# Altium integrated library Linear Technology Power Management Hot Swap Controllers.IntLib: 992 symbols (part 73 of 93)
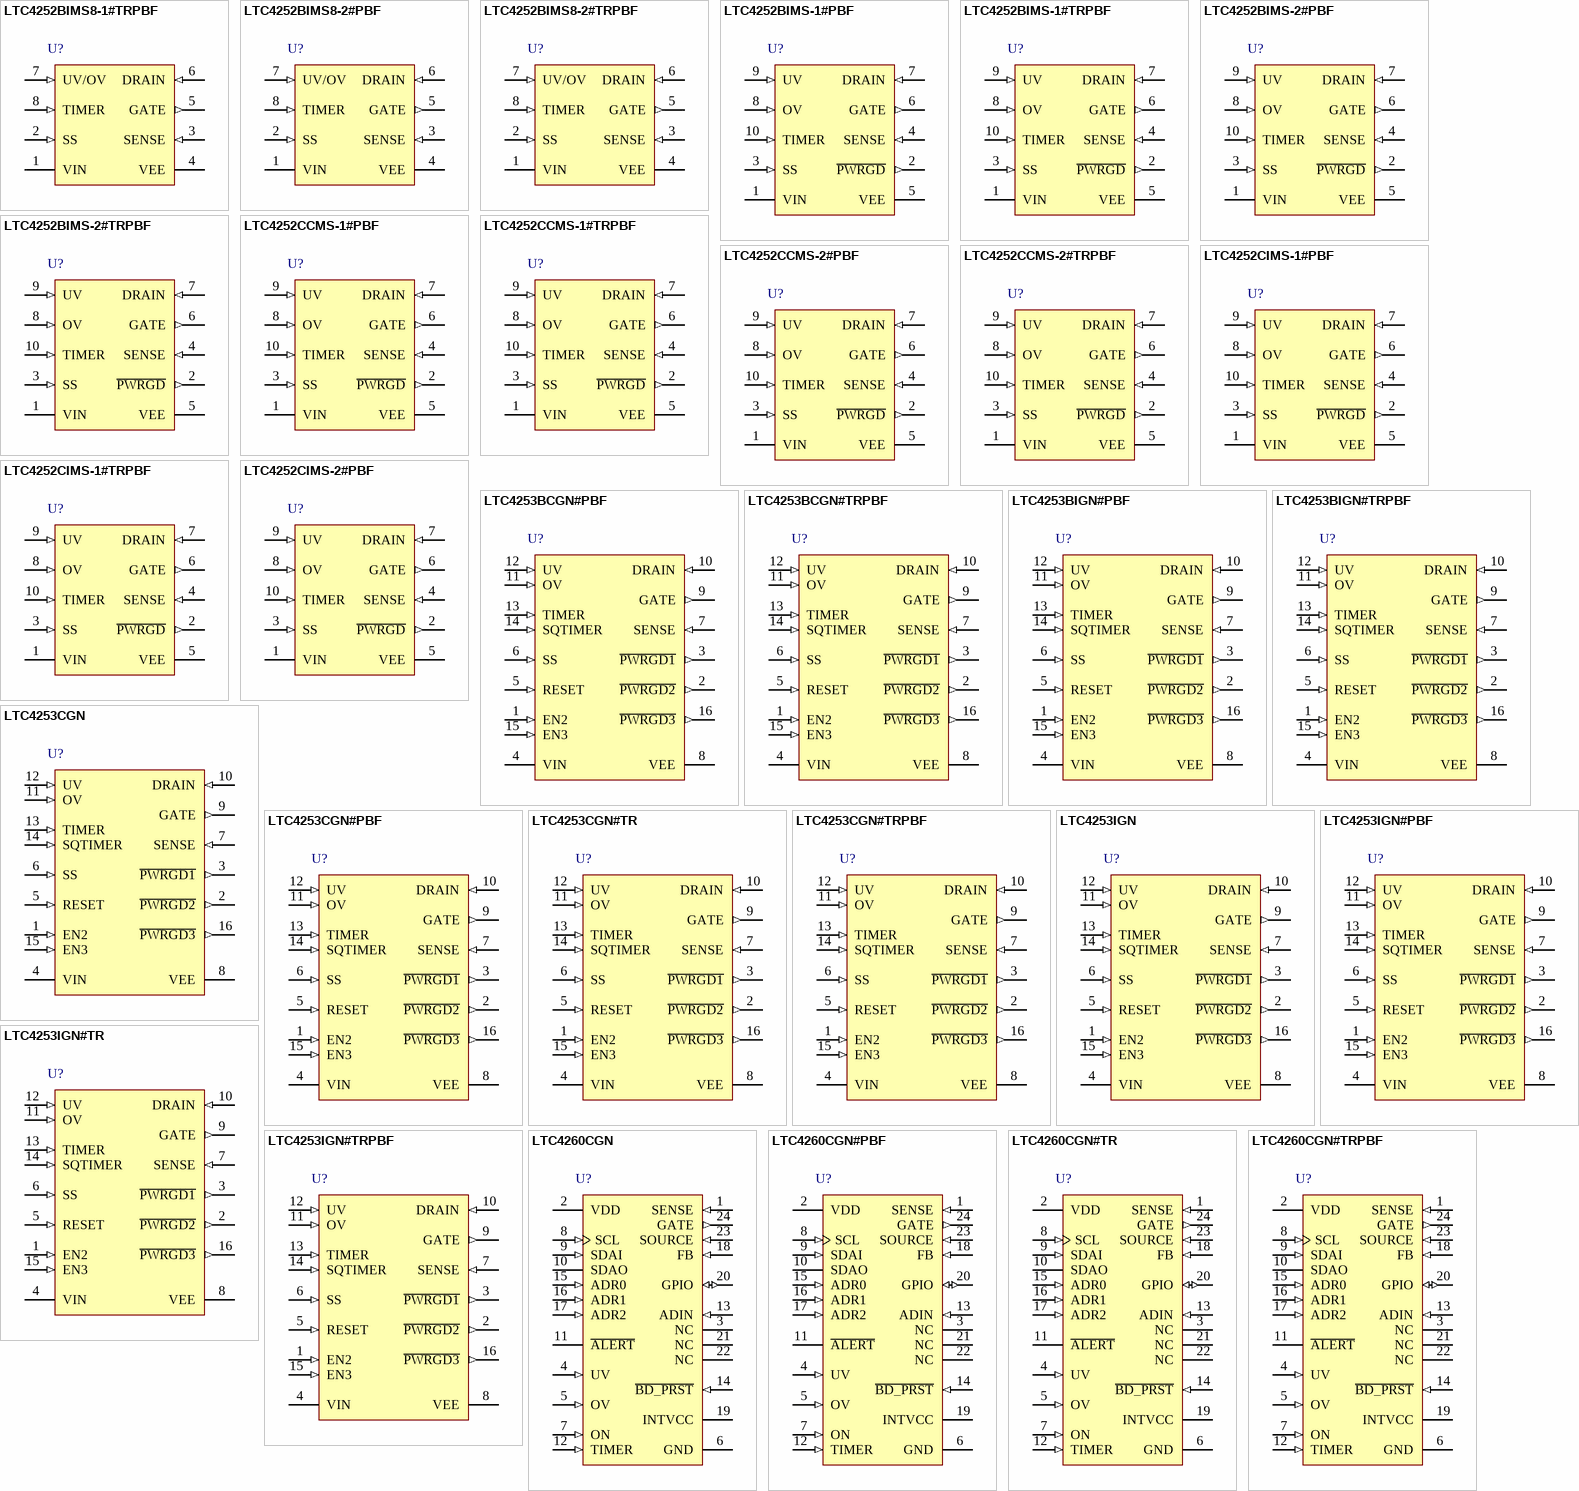
[diagram p109: symbols LTC4252BIMS8-1#TRPBF to LTC4260CGN#TRPBF]

## LTC4253IGN
designator U?
-48 V Hot Swap Controller with Sequencer, 16-pin SOP (GN-16), -40 to 85 degC; Manufacturer: Linear Technology; PartNumber: LTC4253IGN; Active Limiting: yes; Circuit Breaker Accuracy(%): 20; Circuit Breaker Threshold: 50 mV; Circuit Breakers(#): 1; Extended Temp: C, I; In-Rush Current: Active/SS; PackageVersion: Rev. B, 03/2012; PackageReference: GN-16; PackageDescription: 16-Pin Plastic SSOP, Body 4.9 x 3.9 mm, Pitch 0.635 mm; Supplier 1: Digi-Key; Supplier Part Number 1: LTC4253IGN-ND; Fast Comparator: yes; Fault: yes; Foldback: yes; Power Good: yes; Reset: yes; RoHS: FALSE; Mounting Technology: Surface Mount; ComponentLink1Description: Manufacturer URL; ComponentLink1URL: http://www.linear.com/; ComponentLink2Description: Datasheet; ComponentLink2URL: http://cds.linear.com/docs/en/datasheet/4253bf.pdf; ComponentLink3Description: Package Specification; ComponentLink3URL: http://cds.linear.com/docs/en/packaging/05081641_B_GN16.pdf
footprint LT-GN-16_N (SOP, 16-Leads, Body 5x4mm, Pitch 0.635mm, IPC Medium Density)
footprint LT-GN-16_L (SOP, 16-Leads, Body 5x4mm, Pitch 0.635mm, IPC High Density)
footprint LT-GN-16_M (SOP, 16-Leads, Body 5x4mm, Pitch 0.635mm, IPC Low Density)
pins: 1 EN2 (in) "Power Good Status Output Two Enable. This  is a TTL compatible input that is used to control P\W\R\G\D\2\ and P\W\R\G\D\3\ outputs. When EN2 is driven low, both  P\W\R\G\D\2\ and P\W\R\G\D\3\ will go high. When EN2 is driven (See Datasheet)", 2 ~{PWRGD2} (out) "Power Good Status Output Two. Power  good sequence starts with P\W\R\G\D\1\ latching active low.  P\W\R\G\D\2\ will latch active low after EN2 goes high and  after one power good sequence delay tSQT provided by the (See Datasheet)", 3 ~{PWRGD1} (out) "Power Good Status Output One. At startup, P\W\R\G\D\1\ latches active low and starts the power good  sequence when the DRAIN pin is below 2.39V and GATE  is within 2.8V of VIN. P\W\R\G\D\1\ status is reset by UV, VIN (UVLO), (See Datasheet)", 4 VIN (power) "Positive Supply Input. Connect this pin to the positive side of the supply through a dropping resistor. A  shunt regulator clamps VIN at 13V above VEE. An internal  undervoltage lockout (UVLO) circuit holds GATE low until  (See Datasheet)", 5 RESET (in) "Circuit Breaker Reset Pin. This is an asynchronous TTL compatible input. RESET going high will pull GATE, SS, TIMER, SQTIMER lowand the P\W\R\G\D\ outputs  high. The RESET pulse must be wide enough to discharge  any voltage (See Datasheet)", 6 SS (in) "Soft-Start Pin. This pin is used to ramp inrush  current during start up, there by effecting control over di/dt.  A 20X attenuated version of the SS pin voltage is presented  to the current limit amplifier. This attenuated (See Datasheet)", 7 SENSE (in) "Circuit Breaker/Current Limit Sense Pin.  Load current is monitored by a senseresistor RS connected between SENSE and VEE, and controlled in three steps. If SENSE exceeds VCB (50mV), the circuit breaker comparator activates (See Datasheet)", 8 VEE (power) "Negative Supply Voltage Input. Connect this  pin to the negative side of the power supply.", 9 GATE (out) "N-channel MOSFET Gate Drive Output. This  pin is pulled high by a 50uA current source. GATE is pulled  low by invalid conditions at VIN (UVLO), UV, OV, during the  initial timing cycle, a circuit breaker fault time-out or (See Datasheet)", 10 DRAIN (in) "Drain Sense Input. Connecting an external resistor, RD between this pin and the MOSFET’s drain  (VOUT) allows voltage sensing below 6.15V and current  feedback toTIMER. A comparator detects if DRAIN is below 2.39V an(See Datasheet)", 11 OV (in) "Overvoltage Input. For the LTC4253B, the  threshold at the OV pin is set at 6.15V with 0.3V hysteresis.  If OV > 6.15V, GATE pulls low. When OV returns below  5.85V, GATE start-up begins without an initial timing cycle. If (See Datasheet)", 12 UV (in) "Undervoltage Input. For the LTC4253B, the  threshold at the UV pin is set at 3.225V with 0.3V hysteresis. If UV < 2.925V, P\W\R\G\D\1\ pulls high, both GATE and  TIMER pull low. If UV rises above 3.225V, this initiates  an (See Datasheet)", 13 TIMER (in) "Timer Input. Timer is used to generate an initial timing delay at start-up, and to delay shutdown  in the event of an output overload (circuit breaker fault).  Timer starts an initial timing cycle when the following  (See Datasheet)", 14 SQTIMER (in) "Sequencing Timer Input. These quencing timer provides a delay tSQT for the power good sequencing. This delay is adjusted by connecting an appropriate capacitor to this pin. If the SQTIMER capacitor is omitted,  the SQTIMER (See Datasheet)", 15 EN3 (in) "Power Good Status Output Three Enable. This is a TTL compatible input that is used to control the  P\W\R\G\D\3\ output. When EN3 is driven low, P\W\R\G\D\3\ will  go high. When EN3 is driven high, P\W\R\G\D\3\ will go low  (See Datasheet)", 16 ~{PWRGD3} (out) "Power Good Status Output Three. Power good sequence starts with P\W\R\G\D\1\ latching active low.  P\W\R\G\D\3\ will latch active low after EN3 goes high and  after one power good sequence delay tSQT provided by  the (See Datasheet)"

## LTC4253IGN#PBF
designator U?
-48 V Hot Swap Controller with Sequencer, 16-pin SOP (GN-16), -40 to 85 degC, Pb-Free; Manufacturer: Linear Technology; PartNumber: LTC4253IGN#PBF; Active Limiting: yes; Circuit Breaker Accuracy(%): 20; Circuit Breaker Threshold: 50 mV; Circuit Breakers(#): 1; Extended Temp: C, I; In-Rush Current: Active/SS; PackageVersion: Rev. B, 03/2012; PackageReference: GN-16; PackageDescription: 16-Pin Plastic SSOP, Body 4.9 x 3.9 mm, Pitch 0.635 mm; Supplier 1: Digi-Key; Supplier Part Number 1: LTC4253IGN#PBF-ND; Fast Comparator: yes; Fault: yes; Foldback: yes; Power Good: yes; Reset: yes; RoHS: TRUE; Mounting Technology: Surface Mount; ComponentLink1Description: Manufacturer URL; ComponentLink1URL: http://www.linear.com/; ComponentLink2Description: Datasheet; ComponentLink2URL: http://cds.linear.com/docs/en/datasheet/4253bf.pdf; ComponentLink3Description: Package Specification; ComponentLink3URL: http://cds.linear.com/docs/en/packaging/05081641_B_GN16.pdf
footprint LT-GN-16_N (SOP, 16-Leads, Body 5x4mm, Pitch 0.635mm, IPC Medium Density)
footprint LT-GN-16_L (SOP, 16-Leads, Body 5x4mm, Pitch 0.635mm, IPC High Density)
footprint LT-GN-16_M (SOP, 16-Leads, Body 5x4mm, Pitch 0.635mm, IPC Low Density)
pins: 1 EN2 (in) "Power Good Status Output Two Enable. This  is a TTL compatible input that is used to control P\W\R\G\D\2\ and P\W\R\G\D\3\ outputs. When EN2 is driven low, both  P\W\R\G\D\2\ and P\W\R\G\D\3\ will go high. When EN2 is driven (See Datasheet)", 2 ~{PWRGD2} (out) "Power Good Status Output Two. Power  good sequence starts with P\W\R\G\D\1\ latching active low.  P\W\R\G\D\2\ will latch active low after EN2 goes high and  after one power good sequence delay tSQT provided by the (See Datasheet)", 3 ~{PWRGD1} (out) "Power Good Status Output One. At startup, P\W\R\G\D\1\ latches active low and starts the power good  sequence when the DRAIN pin is below 2.39V and GATE  is within 2.8V of VIN. P\W\R\G\D\1\ status is reset by UV, VIN (UVLO), (See Datasheet)", 4 VIN (power) "Positive Supply Input. Connect this pin to the positive side of the supply through a dropping resistor. A  shunt regulator clamps VIN at 13V above VEE. An internal  undervoltage lockout (UVLO) circuit holds GATE low until  (See Datasheet)", 5 RESET (in) "Circuit Breaker Reset Pin. This is an asynchronous TTL compatible input. RESET going high will pull GATE, SS, TIMER, SQTIMER lowand the P\W\R\G\D\ outputs  high. The RESET pulse must be wide enough to discharge  any voltage (See Datasheet)", 6 SS (in) "Soft-Start Pin. This pin is used to ramp inrush  current during start up, there by effecting control over di/dt.  A 20X attenuated version of the SS pin voltage is presented  to the current limit amplifier. This attenuated (See Datasheet)", 7 SENSE (in) "Circuit Breaker/Current Limit Sense Pin.  Load current is monitored by a senseresistor RS connected between SENSE and VEE, and controlled in three steps. If SENSE exceeds VCB (50mV), the circuit breaker comparator activates (See Datasheet)", 8 VEE (power) "Negative Supply Voltage Input. Connect this  pin to the negative side of the power supply.", 9 GATE (out) "N-channel MOSFET Gate Drive Output. This  pin is pulled high by a 50uA current source. GATE is pulled  low by invalid conditions at VIN (UVLO), UV, OV, during the  initial timing cycle, a circuit breaker fault time-out or (See Datasheet)", 10 DRAIN (in) "Drain Sense Input. Connecting an external resistor, RD between this pin and the MOSFET’s drain  (VOUT) allows voltage sensing below 6.15V and current  feedback toTIMER. A comparator detects if DRAIN is below 2.39V an(See Datasheet)", 11 OV (in) "Overvoltage Input. For the LTC4253B, the  threshold at the OV pin is set at 6.15V with 0.3V hysteresis.  If OV > 6.15V, GATE pulls low. When OV returns below  5.85V, GATE start-up begins without an initial timing cycle. If (See Datasheet)", 12 UV (in) "Undervoltage Input. For the LTC4253B, the  threshold at the UV pin is set at 3.225V with 0.3V hysteresis. If UV < 2.925V, P\W\R\G\D\1\ pulls high, both GATE and  TIMER pull low. If UV rises above 3.225V, this initiates  an (See Datasheet)", 13 TIMER (in) "Timer Input. Timer is used to generate an initial timing delay at start-up, and to delay shutdown  in the event of an output overload (circuit breaker fault).  Timer starts an initial timing cycle when the following  (See Datasheet)", 14 SQTIMER (in) "Sequencing Timer Input. These quencing timer provides a delay tSQT for the power good sequencing. This delay is adjusted by connecting an appropriate capacitor to this pin. If the SQTIMER capacitor is omitted,  the SQTIMER (See Datasheet)", 15 EN3 (in) "Power Good Status Output Three Enable. This is a TTL compatible input that is used to control the  P\W\R\G\D\3\ output. When EN3 is driven low, P\W\R\G\D\3\ will  go high. When EN3 is driven high, P\W\R\G\D\3\ will go low  (See Datasheet)", 16 ~{PWRGD3} (out) "Power Good Status Output Three. Power good sequence starts with P\W\R\G\D\1\ latching active low.  P\W\R\G\D\3\ will latch active low after EN3 goes high and  after one power good sequence delay tSQT provided by  the (See Datasheet)"

## LTC4253IGN#TR
designator U?
-48 V Hot Swap Controller with Sequencer, 16-pin SOP (GN-16), -40 to 85 degC, Tape and Reel; Manufacturer: Linear Technology; PartNumber: LTC4253IGN#TR; Active Limiting: yes; Circuit Breaker Accuracy(%): 20; Circuit Breaker Threshold: 50 mV; Circuit Breakers(#): 1; Extended Temp: C, I; In-Rush Current: Active/SS; PackageVersion: Rev. B, 03/2012; PackageReference: GN-16; PackageDescription: 16-Pin Plastic SSOP, Body 4.9 x 3.9 mm, Pitch 0.635 mm; Supplier 1: Digi-Key; Supplier Part Number 1: LTC4253IGNTR-ND; Fast Comparator: yes; Fault: yes; Foldback: yes; Packing: Tape and Reel; Power Good: yes; Reset: yes; RoHS: FALSE; Mounting Technology: Surface Mount; ComponentLink1Description: Manufacturer URL; ComponentLink1URL: http://www.linear.com/; ComponentLink2Description: Datasheet; ComponentLink2URL: http://cds.linear.com/docs/en/datasheet/4253bf.pdf; ComponentLink3Description: Package Specification; ComponentLink3URL: http://cds.linear.com/docs/en/packaging/05081641_B_GN16.pdf
footprint LT-GN-16_N (SOP, 16-Leads, Body 5x4mm, Pitch 0.635mm, IPC Medium Density)
footprint LT-GN-16_L (SOP, 16-Leads, Body 5x4mm, Pitch 0.635mm, IPC High Density)
footprint LT-GN-16_M (SOP, 16-Leads, Body 5x4mm, Pitch 0.635mm, IPC Low Density)
pins: 1 EN2 (in) "Power Good Status Output Two Enable. This  is a TTL compatible input that is used to control P\W\R\G\D\2\ and P\W\R\G\D\3\ outputs. When EN2 is driven low, both  P\W\R\G\D\2\ and P\W\R\G\D\3\ will go high. When EN2 is driven (See Datasheet)", 2 ~{PWRGD2} (out) "Power Good Status Output Two. Power  good sequence starts with P\W\R\G\D\1\ latching active low.  P\W\R\G\D\2\ will latch active low after EN2 goes high and  after one power good sequence delay tSQT provided by the (See Datasheet)", 3 ~{PWRGD1} (out) "Power Good Status Output One. At startup, P\W\R\G\D\1\ latches active low and starts the power good  sequence when the DRAIN pin is below 2.39V and GATE  is within 2.8V of VIN. P\W\R\G\D\1\ status is reset by UV, VIN (UVLO), (See Datasheet)", 4 VIN (power) "Positive Supply Input. Connect this pin to the positive side of the supply through a dropping resistor. A  shunt regulator clamps VIN at 13V above VEE. An internal  undervoltage lockout (UVLO) circuit holds GATE low until  (See Datasheet)", 5 RESET (in) "Circuit Breaker Reset Pin. This is an asynchronous TTL compatible input. RESET going high will pull GATE, SS, TIMER, SQTIMER lowand the P\W\R\G\D\ outputs  high. The RESET pulse must be wide enough to discharge  any voltage (See Datasheet)", 6 SS (in) "Soft-Start Pin. This pin is used to ramp inrush  current during start up, there by effecting control over di/dt.  A 20X attenuated version of the SS pin voltage is presented  to the current limit amplifier. This attenuated (See Datasheet)", 7 SENSE (in) "Circuit Breaker/Current Limit Sense Pin.  Load current is monitored by a senseresistor RS connected between SENSE and VEE, and controlled in three steps. If SENSE exceeds VCB (50mV), the circuit breaker comparator activates (See Datasheet)", 8 VEE (power) "Negative Supply Voltage Input. Connect this  pin to the negative side of the power supply.", 9 GATE (out) "N-channel MOSFET Gate Drive Output. This  pin is pulled high by a 50uA current source. GATE is pulled  low by invalid conditions at VIN (UVLO), UV, OV, during the  initial timing cycle, a circuit breaker fault time-out or (See Datasheet)", 10 DRAIN (in) "Drain Sense Input. Connecting an external resistor, RD between this pin and the MOSFET’s drain  (VOUT) allows voltage sensing below 6.15V and current  feedback toTIMER. A comparator detects if DRAIN is below 2.39V an(See Datasheet)", 11 OV (in) "Overvoltage Input. For the LTC4253B, the  threshold at the OV pin is set at 6.15V with 0.3V hysteresis.  If OV > 6.15V, GATE pulls low. When OV returns below  5.85V, GATE start-up begins without an initial timing cycle. If (See Datasheet)", 12 UV (in) "Undervoltage Input. For the LTC4253B, the  threshold at the UV pin is set at 3.225V with 0.3V hysteresis. If UV < 2.925V, P\W\R\G\D\1\ pulls high, both GATE and  TIMER pull low. If UV rises above 3.225V, this initiates  an (See Datasheet)", 13 TIMER (in) "Timer Input. Timer is used to generate an initial timing delay at start-up, and to delay shutdown  in the event of an output overload (circuit breaker fault).  Timer starts an initial timing cycle when the following  (See Datasheet)", 14 SQTIMER (in) "Sequencing Timer Input. These quencing timer provides a delay tSQT for the power good sequencing. This delay is adjusted by connecting an appropriate capacitor to this pin. If the SQTIMER capacitor is omitted,  the SQTIMER (See Datasheet)", 15 EN3 (in) "Power Good Status Output Three Enable. This is a TTL compatible input that is used to control the  P\W\R\G\D\3\ output. When EN3 is driven low, P\W\R\G\D\3\ will  go high. When EN3 is driven high, P\W\R\G\D\3\ will go low  (See Datasheet)", 16 ~{PWRGD3} (out) "Power Good Status Output Three. Power good sequence starts with P\W\R\G\D\1\ latching active low.  P\W\R\G\D\3\ will latch active low after EN3 goes high and  after one power good sequence delay tSQT provided by  the (See Datasheet)"

## LTC4253IGN#TRPBF
designator U?
-48 V Hot Swap Controller with Sequencer, 16-pin SOP (GN-16), -40 to 85 degC, Pb-Free, Tape and Reel; Manufacturer: Linear Technology; PartNumber: LTC4253IGN#TRPBF; Active Limiting: yes; Circuit Breaker Accuracy(%): 20; Circuit Breaker Threshold: 50 mV; Circuit Breakers(#): 1; Extended Temp: C, I; In-Rush Current: Active/SS; PackageVersion: Rev. B, 03/2012; PackageReference: GN-16; PackageDescription: 16-Pin Plastic SSOP, Body 4.9 x 3.9 mm, Pitch 0.635 mm; Supplier 1: Digi-Key; Supplier Part Number 1: LTC4253IGN#TRPBF-ND; Fast Comparator: yes; Fault: yes; Foldback: yes; Packing: Tape and Reel; Power Good: yes; Reset: yes; RoHS: TRUE; Mounting Technology: Surface Mount; ComponentLink1Description: Manufacturer URL; ComponentLink1URL: http://www.linear.com/; ComponentLink2Description: Datasheet; ComponentLink2URL: http://cds.linear.com/docs/en/datasheet/4253bf.pdf; ComponentLink3Description: Package Specification; ComponentLink3URL: http://cds.linear.com/docs/en/packaging/05081641_B_GN16.pdf
footprint LT-GN-16_N (SOP, 16-Leads, Body 5x4mm, Pitch 0.635mm, IPC Medium Density)
footprint LT-GN-16_L (SOP, 16-Leads, Body 5x4mm, Pitch 0.635mm, IPC High Density)
footprint LT-GN-16_M (SOP, 16-Leads, Body 5x4mm, Pitch 0.635mm, IPC Low Density)
pins: 1 EN2 (in) "Power Good Status Output Two Enable. This  is a TTL compatible input that is used to control P\W\R\G\D\2\ and P\W\R\G\D\3\ outputs. When EN2 is driven low, both  P\W\R\G\D\2\ and P\W\R\G\D\3\ will go high. When EN2 is driven (See Datasheet)", 2 ~{PWRGD2} (out) "Power Good Status Output Two. Power  good sequence starts with P\W\R\G\D\1\ latching active low.  P\W\R\G\D\2\ will latch active low after EN2 goes high and  after one power good sequence delay tSQT provided by the (See Datasheet)", 3 ~{PWRGD1} (out) "Power Good Status Output One. At startup, P\W\R\G\D\1\ latches active low and starts the power good  sequence when the DRAIN pin is below 2.39V and GATE  is within 2.8V of VIN. P\W\R\G\D\1\ status is reset by UV, VIN (UVLO), (See Datasheet)", 4 VIN (power) "Positive Supply Input. Connect this pin to the positive side of the supply through a dropping resistor. A  shunt regulator clamps VIN at 13V above VEE. An internal  undervoltage lockout (UVLO) circuit holds GATE low until  (See Datasheet)", 5 RESET (in) "Circuit Breaker Reset Pin. This is an asynchronous TTL compatible input. RESET going high will pull GATE, SS, TIMER, SQTIMER lowand the P\W\R\G\D\ outputs  high. The RESET pulse must be wide enough to discharge  any voltage (See Datasheet)", 6 SS (in) "Soft-Start Pin. This pin is used to ramp inrush  current during start up, there by effecting control over di/dt.  A 20X attenuated version of the SS pin voltage is presented  to the current limit amplifier. This attenuated (See Datasheet)", 7 SENSE (in) "Circuit Breaker/Current Limit Sense Pin.  Load current is monitored by a senseresistor RS connected between SENSE and VEE, and controlled in three steps. If SENSE exceeds VCB (50mV), the circuit breaker comparator activates (See Datasheet)", 8 VEE (power) "Negative Supply Voltage Input. Connect this  pin to the negative side of the power supply.", 9 GATE (out) "N-channel MOSFET Gate Drive Output. This  pin is pulled high by a 50uA current source. GATE is pulled  low by invalid conditions at VIN (UVLO), UV, OV, during the  initial timing cycle, a circuit breaker fault time-out or (See Datasheet)", 10 DRAIN (in) "Drain Sense Input. Connecting an external resistor, RD between this pin and the MOSFET’s drain  (VOUT) allows voltage sensing below 6.15V and current  feedback toTIMER. A comparator detects if DRAIN is below 2.39V an(See Datasheet)", 11 OV (in) "Overvoltage Input. For the LTC4253B, the  threshold at the OV pin is set at 6.15V with 0.3V hysteresis.  If OV > 6.15V, GATE pulls low. When OV returns below  5.85V, GATE start-up begins without an initial timing cycle. If (See Datasheet)", 12 UV (in) "Undervoltage Input. For the LTC4253B, the  threshold at the UV pin is set at 3.225V with 0.3V hysteresis. If UV < 2.925V, P\W\R\G\D\1\ pulls high, both GATE and  TIMER pull low. If UV rises above 3.225V, this initiates  an (See Datasheet)", 13 TIMER (in) "Timer Input. Timer is used to generate an initial timing delay at start-up, and to delay shutdown  in the event of an output overload (circuit breaker fault).  Timer starts an initial timing cycle when the following  (See Datasheet)", 14 SQTIMER (in) "Sequencing Timer Input. These quencing timer provides a delay tSQT for the power good sequencing. This delay is adjusted by connecting an appropriate capacitor to this pin. If the SQTIMER capacitor is omitted,  the SQTIMER (See Datasheet)", 15 EN3 (in) "Power Good Status Output Three Enable. This is a TTL compatible input that is used to control the  P\W\R\G\D\3\ output. When EN3 is driven low, P\W\R\G\D\3\ will  go high. When EN3 is driven high, P\W\R\G\D\3\ will go low  (See Datasheet)", 16 ~{PWRGD3} (out) "Power Good Status Output Three. Power good sequence starts with P\W\R\G\D\1\ latching active low.  P\W\R\G\D\3\ will latch active low after EN3 goes high and  after one power good sequence delay tSQT provided by  the (See Datasheet)"

## LTC4260CGN
designator U?
Positive High Voltage Hot Swap Controller with I2C Compatible Monitoring, 8.5 to 80 V Vin, 24-pin SOP (GN-24), 0 to 70 degC; Manufacturer: Linear Technology; PartNumber: LTC4260CGN; Active Limiting: yes; ADC: 8-bit; Circuit Breaker Accuracy(%): 10; Circuit Breaker Threshold: 50 mV; Circuit Breakers(#): 1; Extended Temp: C, I; Fast Comparator: no; In-Rush Current: Active; DatasheetVersion: Rev. C; PackageVersion: Rev. B, 03/2012; PackageReference: GN24; PackageDescription: 24-Pin Plastic SSOP , Body 8.5 x 3.9 mm, Pitch 0.635 mm; Supplier 1: Newark; Supplier Part Number 1: 56M9107; Fault: yes; Foldback: yes; Power Good: yes; Reset: no; RoHS: FALSE; Vin Range: 8.5 to 80 V; Mounting Technology: Surface Mount; ComponentLink1Description: Manufacturer URL; ComponentLink1URL: http://www.linear.com/; ComponentLink2Description: Datasheet; ComponentLink2URL: http://cds.linear.com/docs/en/datasheet/4260fc.pdf; ComponentLink3Description: Package Specification; ComponentLink3URL: http://cds.linear.com/docs/en/packaging/05081641_B_GN24.pdf
footprint LT-GN-24_N (SOP, 24-Leads, Body 8.7x4mm, Pitch 0.635mm, IPC Medium Density)
footprint LT-GN-24_L (SOP, 24-Leads, Body 8.7x4mm, Pitch 0.635mm, IPC High Density)
footprint LT-GN-24_M (SOP, 24-Leads, Body 8.7x4mm, Pitch 0.635mm, IPC Low Density)
pins: 1 SENSE (in) "Current Sense Input. Connect this pin to the output of the current sense resistor.", 2 VDD (power) "Supply Voltage and Current Sense Input. This pin has an undervoltage lockout threshold of 7.45V.", 3 NC "No Connect. Unconnected pins. These pins provide extra distance between high and low voltage pins.", 4 UV (in) "Undervoltage Comparator Input. Connect this pin to an external resistive divider from VDD. If the voltage at this pin falls below 3.12V, an undervoltage fault is detected and the switch turns off.", 5 OV (in) "Overvoltage Comparator Input. Connect this pin to an external resistive divider from VDD. If the voltage at this pin rises above 3.5V, an overvoltage fault is detected and the switch turns off. Tie to GND if unused.", 6 GND (power) "Device Ground.", 7 ON (in) "On Control Input. A rising edge turns on the external N-channel FET and a falling edge turns it off.", 8 SCL (in) "Serial Bus Clock Input. Data at the SDA pin is shifted in or out on rising edges of SCL.", 9 SDAI (in) "Serial Bus Data Input. A high impedance input used for shifting in address, command or data bits. Normally tied to SDAO to form the SDA line.", 10 SDAO (oc) "Serial Bus Data Output. Open-drain output used for sending data back to the master controller or acknowledging a write operation. Normally tied to SDAI to form the SDA line. An external pull-up resistor or current source is (See Datasheet)", 11 ~{ALERT} (oc) "Fault Alert Output. Open-drain logic output that can be pulled to ground when a fault occurs to alert the host controller. A fault alert is enabled by the ALERT register. This device is compatible with SMBus alert protocol. (See Datasheet)", 12 TIMER (in) "Timer Input. Connect a capacitor between this pin and ground to set a 12ms/uF duration for current limit before the switch is turned off.", 13 ADIN (in) "ADC Input. A voltage between 0V and 2.56V applied to this pin can be measured by the onboard ADC. Tie to ground if unused.", 14 ~{BD_PRST} (in) "Board Present Input. Ground this pin to enable the N-channel FET to turn on after 100ms debounce delay. When this pin is high, the FET is off. An internal 10uA current source pulls up this pin.", 15 ADR0 (in) "Serial Bus Address Inputs. Tying these pins to ground, open or INTVCC configures one of 27 possible addresses. See Table 1 in Applications Information", 16 ADR1 (in) "Serial Bus Address Inputs. Tying these pins to ground, open or INTVCC configures one of 27 possible addresses. See Table 1 in Applications Information", 17 ADR2 (in) "Serial Bus Address Inputs. Tying these pins to ground, open or INTVCC configures one of 27 possible addresses. See Table 1 in Applications Information", 18 FB (in) "Foldback and Power Good Input. A resistive divider from the output voltage is tied to this pin.", 19 INTVCC (power) "Internal Low Voltage Supply Decoupling Output. Connect a 0.1uF capacitor from this pin to ground. This pin can be used to drive the other pins to logic high and has an undervoltage lockout threshold of 3.8V.", 20 GPIO (io) "General Purpose Input/Output. Open-drain logic output and logic input. Defaults to pull low to indicatepower is bad. Configure according to Table 3.", 21 NC "No Connect. Unconnected pins. These pins provide extra distance between high and low voltage pins.", 22 NC "No Connect. Unconnected pins. These pins provide extra distance between high and low voltage pins.", 23 SOURCE (in) "N-Channel MOSFET Source Connection and ADC Input. Connect this pin to the source of the external N-channel MOSFET switch. This pin also serves as the ADC input to monitor output voltage. The pin provides a return for the (See Datasheet)", 24 GATE (out) "Gate Drive for External N-Channel FET. An internal 18uA current source charges the gate of the external N-channel MOSFET. A resistor and capacitor network from this pin to ground sets the turn-on rate and compensates th(See Datasheet)"

## LTC4260CGN#PBF
designator U?
Positive High Voltage Hot Swap Controller with I2C Compatible Monitoring, 8.5 to 80 V Vin, 24-pin SOP (GN-24), 0 to 70 degC, Pb-Free; Manufacturer: Linear Technology; PartNumber: LTC4260CGN#PBF; Active Limiting: yes; ADC: 8-bit; Circuit Breaker Accuracy(%): 10; Circuit Breaker Threshold: 50 mV; Circuit Breakers(#): 1; Extended Temp: C, I; Fast Comparator: no; In-Rush Current: Active; DatasheetVersion: Rev. C; PackageVersion: Rev. B, 03/2012; PackageReference: GN24; PackageDescription: 24-Pin Plastic SSOP , Body 8.5 x 3.9 mm, Pitch 0.635 mm; Supplier 1: Digi-Key; Supplier Part Number 1: LTC4260CGN#PBF-ND; Supplier 2: Newark; Supplier Part Number 2: 56M9108; Fault: yes; Foldback: yes; Power Good: yes; Reset: no; RoHS: TRUE; Vin Range: 8.5 to 80 V; Mounting Technology: Surface Mount; ComponentLink1Description: Manufacturer URL; ComponentLink1URL: http://www.linear.com/; ComponentLink2Description: Datasheet; ComponentLink2URL: http://cds.linear.com/docs/en/datasheet/4260fc.pdf; ComponentLink3Description: Package Specification; ComponentLink3URL: http://cds.linear.com/docs/en/packaging/05081641_B_GN24.pdf
footprint LT-GN-24_N (SOP, 24-Leads, Body 8.7x4mm, Pitch 0.635mm, IPC Medium Density)
footprint LT-GN-24_L (SOP, 24-Leads, Body 8.7x4mm, Pitch 0.635mm, IPC High Density)
footprint LT-GN-24_M (SOP, 24-Leads, Body 8.7x4mm, Pitch 0.635mm, IPC Low Density)
pins: 1 SENSE (in) "Current Sense Input. Connect this pin to the output of the current sense resistor.", 2 VDD (power) "Supply Voltage and Current Sense Input. This pin has an undervoltage lockout threshold of 7.45V.", 3 NC "No Connect. Unconnected pins. These pins provide extra distance between high and low voltage pins.", 4 UV (in) "Undervoltage Comparator Input. Connect this pin to an external resistive divider from VDD. If the voltage at this pin falls below 3.12V, an undervoltage fault is detected and the switch turns off.", 5 OV (in) "Overvoltage Comparator Input. Connect this pin to an external resistive divider from VDD. If the voltage at this pin rises above 3.5V, an overvoltage fault is detected and the switch turns off. Tie to GND if unused.", 6 GND (power) "Device Ground.", 7 ON (in) "On Control Input. A rising edge turns on the external N-channel FET and a falling edge turns it off.", 8 SCL (in) "Serial Bus Clock Input. Data at the SDA pin is shifted in or out on rising edges of SCL.", 9 SDAI (in) "Serial Bus Data Input. A high impedance input used for shifting in address, command or data bits. Normally tied to SDAO to form the SDA line.", 10 SDAO (oc) "Serial Bus Data Output. Open-drain output used for sending data back to the master controller or acknowledging a write operation. Normally tied to SDAI to form the SDA line. An external pull-up resistor or current source is (See Datasheet)", 11 ~{ALERT} (oc) "Fault Alert Output. Open-drain logic output that can be pulled to ground when a fault occurs to alert the host controller. A fault alert is enabled by the ALERT register. This device is compatible with SMBus alert protocol. (See Datasheet)", 12 TIMER (in) "Timer Input. Connect a capacitor between this pin and ground to set a 12ms/uF duration for current limit before the switch is turned off.", 13 ADIN (in) "ADC Input. A voltage between 0V and 2.56V applied to this pin can be measured by the onboard ADC. Tie to ground if unused.", 14 ~{BD_PRST} (in) "Board Present Input. Ground this pin to enable the N-channel FET to turn on after 100ms debounce delay. When this pin is high, the FET is off. An internal 10uA current source pulls up this pin.", 15 ADR0 (in) "Serial Bus Address Inputs. Tying these pins to ground, open or INTVCC configures one of 27 possible addresses. See Table 1 in Applications Information", 16 ADR1 (in) "Serial Bus Address Inputs. Tying these pins to ground, open or INTVCC configures one of 27 possible addresses. See Table 1 in Applications Information", 17 ADR2 (in) "Serial Bus Address Inputs. Tying these pins to ground, open or INTVCC configures one of 27 possible addresses. See Table 1 in Applications Information", 18 FB (in) "Foldback and Power Good Input. A resistive divider from the output voltage is tied to this pin.", 19 INTVCC (power) "Internal Low Voltage Supply Decoupling Output. Connect a 0.1uF capacitor from this pin to ground. This pin can be used to drive the other pins to logic high and has an undervoltage lockout threshold of 3.8V.", 20 GPIO (io) "General Purpose Input/Output. Open-drain logic output and logic input. Defaults to pull low to indicatepower is bad. Configure according to Table 3.", 21 NC "No Connect. Unconnected pins. These pins provide extra distance between high and low voltage pins.", 22 NC "No Connect. Unconnected pins. These pins provide extra distance between high and low voltage pins.", 23 SOURCE (in) "N-Channel MOSFET Source Connection and ADC Input. Connect this pin to the source of the external N-channel MOSFET switch. This pin also serves as the ADC input to monitor output voltage. The pin provides a return for the (See Datasheet)", 24 GATE (out) "Gate Drive for External N-Channel FET. An internal 18uA current source charges the gate of the external N-channel MOSFET. A resistor and capacitor network from this pin to ground sets the turn-on rate and compensates th(See Datasheet)"

## LTC4260CGN#TR
designator U?
Positive High Voltage Hot Swap Controller with I2C Compatible Monitoring, 8.5 to 80 V Vin, 24-pin SOP (GN-24), 0 to 70 degC, Tape and Reel; Manufacturer: Linear Technology; PartNumber: LTC4260CGN#TR; Active Limiting: yes; ADC: 8-bit; Circuit Breaker Accuracy(%): 10; Circuit Breaker Threshold: 50 mV; Circuit Breakers(#): 1; Extended Temp: C, I; Fast Comparator: no; In-Rush Current: Active; DatasheetVersion: Rev. C; PackageVersion: Rev. B, 03/2012; PackageReference: GN24; PackageDescription: 24-Pin Plastic SSOP , Body 8.5 x 3.9 mm, Pitch 0.635 mm; Fault: yes; Foldback: yes; Packing: Tape and Reel; Power Good: yes; Reset: no; RoHS: FALSE; Vin Range: 8.5 to 80 V; Mounting Technology: Surface Mount; ComponentLink1Description: Manufacturer URL; ComponentLink1URL: http://www.linear.com/; ComponentLink2Description: Datasheet; ComponentLink2URL: http://cds.linear.com/docs/en/datasheet/4260fc.pdf; ComponentLink3Description: Package Specification; ComponentLink3URL: http://cds.linear.com/docs/en/packaging/05081641_B_GN24.pdf
footprint LT-GN-24_N (SOP, 24-Leads, Body 8.7x4mm, Pitch 0.635mm, IPC Medium Density)
footprint LT-GN-24_L (SOP, 24-Leads, Body 8.7x4mm, Pitch 0.635mm, IPC High Density)
footprint LT-GN-24_M (SOP, 24-Leads, Body 8.7x4mm, Pitch 0.635mm, IPC Low Density)
pins: 1 SENSE (in) "Current Sense Input. Connect this pin to the output of the current sense resistor.", 2 VDD (power) "Supply Voltage and Current Sense Input. This pin has an undervoltage lockout threshold of 7.45V.", 3 NC "No Connect. Unconnected pins. These pins provide extra distance between high and low voltage pins.", 4 UV (in) "Undervoltage Comparator Input. Connect this pin to an external resistive divider from VDD. If the voltage at this pin falls below 3.12V, an undervoltage fault is detected and the switch turns off.", 5 OV (in) "Overvoltage Comparator Input. Connect this pin to an external resistive divider from VDD. If the voltage at this pin rises above 3.5V, an overvoltage fault is detected and the switch turns off. Tie to GND if unused.", 6 GND (power) "Device Ground.", 7 ON (in) "On Control Input. A rising edge turns on the external N-channel FET and a falling edge turns it off.", 8 SCL (in) "Serial Bus Clock Input. Data at the SDA pin is shifted in or out on rising edges of SCL.", 9 SDAI (in) "Serial Bus Data Input. A high impedance input used for shifting in address, command or data bits. Normally tied to SDAO to form the SDA line.", 10 SDAO (oc) "Serial Bus Data Output. Open-drain output used for sending data back to the master controller or acknowledging a write operation. Normally tied to SDAI to form the SDA line. An external pull-up resistor or current source is (See Datasheet)", 11 ~{ALERT} (oc) "Fault Alert Output. Open-drain logic output that can be pulled to ground when a fault occurs to alert the host controller. A fault alert is enabled by the ALERT register. This device is compatible with SMBus alert protocol. (See Datasheet)", 12 TIMER (in) "Timer Input. Connect a capacitor between this pin and ground to set a 12ms/uF duration for current limit before the switch is turned off.", 13 ADIN (in) "ADC Input. A voltage between 0V and 2.56V applied to this pin can be measured by the onboard ADC. Tie to ground if unused.", 14 ~{BD_PRST} (in) "Board Present Input. Ground this pin to enable the N-channel FET to turn on after 100ms debounce delay. When this pin is high, the FET is off. An internal 10uA current source pulls up this pin.", 15 ADR0 (in) "Serial Bus Address Inputs. Tying these pins to ground, open or INTVCC configures one of 27 possible addresses. See Table 1 in Applications Information", 16 ADR1 (in) "Serial Bus Address Inputs. Tying these pins to ground, open or INTVCC configures one of 27 possible addresses. See Table 1 in Applications Information", 17 ADR2 (in) "Serial Bus Address Inputs. Tying these pins to ground, open or INTVCC configures one of 27 possible addresses. See Table 1 in Applications Information", 18 FB (in) "Foldback and Power Good Input. A resistive divider from the output voltage is tied to this pin.", 19 INTVCC (power) "Internal Low Voltage Supply Decoupling Output. Connect a 0.1uF capacitor from this pin to ground. This pin can be used to drive the other pins to logic high and has an undervoltage lockout threshold of 3.8V.", 20 GPIO (io) "General Purpose Input/Output. Open-drain logic output and logic input. Defaults to pull low to indicatepower is bad. Configure according to Table 3.", 21 NC "No Connect. Unconnected pins. These pins provide extra distance between high and low voltage pins.", 22 NC "No Connect. Unconnected pins. These pins provide extra distance between high and low voltage pins.", 23 SOURCE (in) "N-Channel MOSFET Source Connection and ADC Input. Connect this pin to the source of the external N-channel MOSFET switch. This pin also serves as the ADC input to monitor output voltage. The pin provides a return for the (See Datasheet)", 24 GATE (out) "Gate Drive for External N-Channel FET. An internal 18uA current source charges the gate of the external N-channel MOSFET. A resistor and capacitor network from this pin to ground sets the turn-on rate and compensates th(See Datasheet)"

## LTC4260CGN#TRPBF
designator U?
Positive High Voltage Hot Swap Controller with I2C Compatible Monitoring, 8.5 to 80 V Vin, 24-pin SOP (GN-24), 0 to 70 degC, Pb-Free, Tape and Reel; Manufacturer: Linear Technology; PartNumber: LTC4260CGN#TRPBF; Active Limiting: yes; ADC: 8-bit; Circuit Breaker Accuracy(%): 10; Circuit Breaker Threshold: 50 mV; Circuit Breakers(#): 1; Extended Temp: C, I; Fast Comparator: no; In-Rush Current: Active; DatasheetVersion: Rev. C; PackageVersion: Rev. B, 03/2012; PackageReference: GN24; PackageDescription: 24-Pin Plastic SSOP , Body 8.5 x 3.9 mm, Pitch 0.635 mm; Supplier 1: Digi-Key; Supplier Part Number 1: LTC4260CGN#TRPBF-ND; Supplier 2: Newark; Supplier Part Number 2: 56M9110; Fault: yes; Foldback: yes; Packing: Tape and Reel; Power Good: yes; Reset: no; RoHS: TRUE; Vin Range: 8.5 to 80 V; Mounting Technology: Surface Mount; ComponentLink1Description: Manufacturer URL; ComponentLink1URL: http://www.linear.com/; ComponentLink2Description: Datasheet; ComponentLink2URL: http://cds.linear.com/docs/en/datasheet/4260fc.pdf; ComponentLink3Description: Package Specification; ComponentLink3URL: http://cds.linear.com/docs/en/packaging/05081641_B_GN24.pdf
footprint LT-GN-24_N (SOP, 24-Leads, Body 8.7x4mm, Pitch 0.635mm, IPC Medium Density)
footprint LT-GN-24_L (SOP, 24-Leads, Body 8.7x4mm, Pitch 0.635mm, IPC High Density)
footprint LT-GN-24_M (SOP, 24-Leads, Body 8.7x4mm, Pitch 0.635mm, IPC Low Density)
pins: 1 SENSE (in) "Current Sense Input. Connect this pin to the output of the current sense resistor.", 2 VDD (power) "Supply Voltage and Current Sense Input. This pin has an undervoltage lockout threshold of 7.45V.", 3 NC "No Connect. Unconnected pins. These pins provide extra distance between high and low voltage pins.", 4 UV (in) "Undervoltage Comparator Input. Connect this pin to an external resistive divider from VDD. If the voltage at this pin falls below 3.12V, an undervoltage fault is detected and the switch turns off.", 5 OV (in) "Overvoltage Comparator Input. Connect this pin to an external resistive divider from VDD. If the voltage at this pin rises above 3.5V, an overvoltage fault is detected and the switch turns off. Tie to GND if unused.", 6 GND (power) "Device Ground.", 7 ON (in) "On Control Input. A rising edge turns on the external N-channel FET and a falling edge turns it off.", 8 SCL (in) "Serial Bus Clock Input. Data at the SDA pin is shifted in or out on rising edges of SCL.", 9 SDAI (in) "Serial Bus Data Input. A high impedance input used for shifting in address, command or data bits. Normally tied to SDAO to form the SDA line.", 10 SDAO (oc) "Serial Bus Data Output. Open-drain output used for sending data back to the master controller or acknowledging a write operation. Normally tied to SDAI to form the SDA line. An external pull-up resistor or current source is (See Datasheet)", 11 ~{ALERT} (oc) "Fault Alert Output. Open-drain logic output that can be pulled to ground when a fault occurs to alert the host controller. A fault alert is enabled by the ALERT register. This device is compatible with SMBus alert protocol. (See Datasheet)", 12 TIMER (in) "Timer Input. Connect a capacitor between this pin and ground to set a 12ms/uF duration for current limit before the switch is turned off.", 13 ADIN (in) "ADC Input. A voltage between 0V and 2.56V applied to this pin can be measured by the onboard ADC. Tie to ground if unused.", 14 ~{BD_PRST} (in) "Board Present Input. Ground this pin to enable the N-channel FET to turn on after 100ms debounce delay. When this pin is high, the FET is off. An internal 10uA current source pulls up this pin.", 15 ADR0 (in) "Serial Bus Address Inputs. Tying these pins to ground, open or INTVCC configures one of 27 possible addresses. See Table 1 in Applications Information", 16 ADR1 (in) "Serial Bus Address Inputs. Tying these pins to ground, open or INTVCC configures one of 27 possible addresses. See Table 1 in Applications Information", 17 ADR2 (in) "Serial Bus Address Inputs. Tying these pins to ground, open or INTVCC configures one of 27 possible addresses. See Table 1 in Applications Information", 18 FB (in) "Foldback and Power Good Input. A resistive divider from the output voltage is tied to this pin.", 19 INTVCC (power) "Internal Low Voltage Supply Decoupling Output. Connect a 0.1uF capacitor from this pin to ground. This pin can be used to drive the other pins to logic high and has an undervoltage lockout threshold of 3.8V.", 20 GPIO (io) "General Purpose Input/Output. Open-drain logic output and logic input. Defaults to pull low to indicatepower is bad. Configure according to Table 3.", 21 NC "No Connect. Unconnected pins. These pins provide extra distance between high and low voltage pins.", 22 NC "No Connect. Unconnected pins. These pins provide extra distance between high and low voltage pins.", 23 SOURCE (in) "N-Channel MOSFET Source Connection and ADC Input. Connect this pin to the source of the external N-channel MOSFET switch. This pin also serves as the ADC input to monitor output voltage. The pin provides a return for the (See Datasheet)", 24 GATE (out) "Gate Drive for External N-Channel FET. An internal 18uA current source charges the gate of the external N-channel MOSFET. A resistor and capacitor network from this pin to ground sets the turn-on rate and compensates th(See Datasheet)"

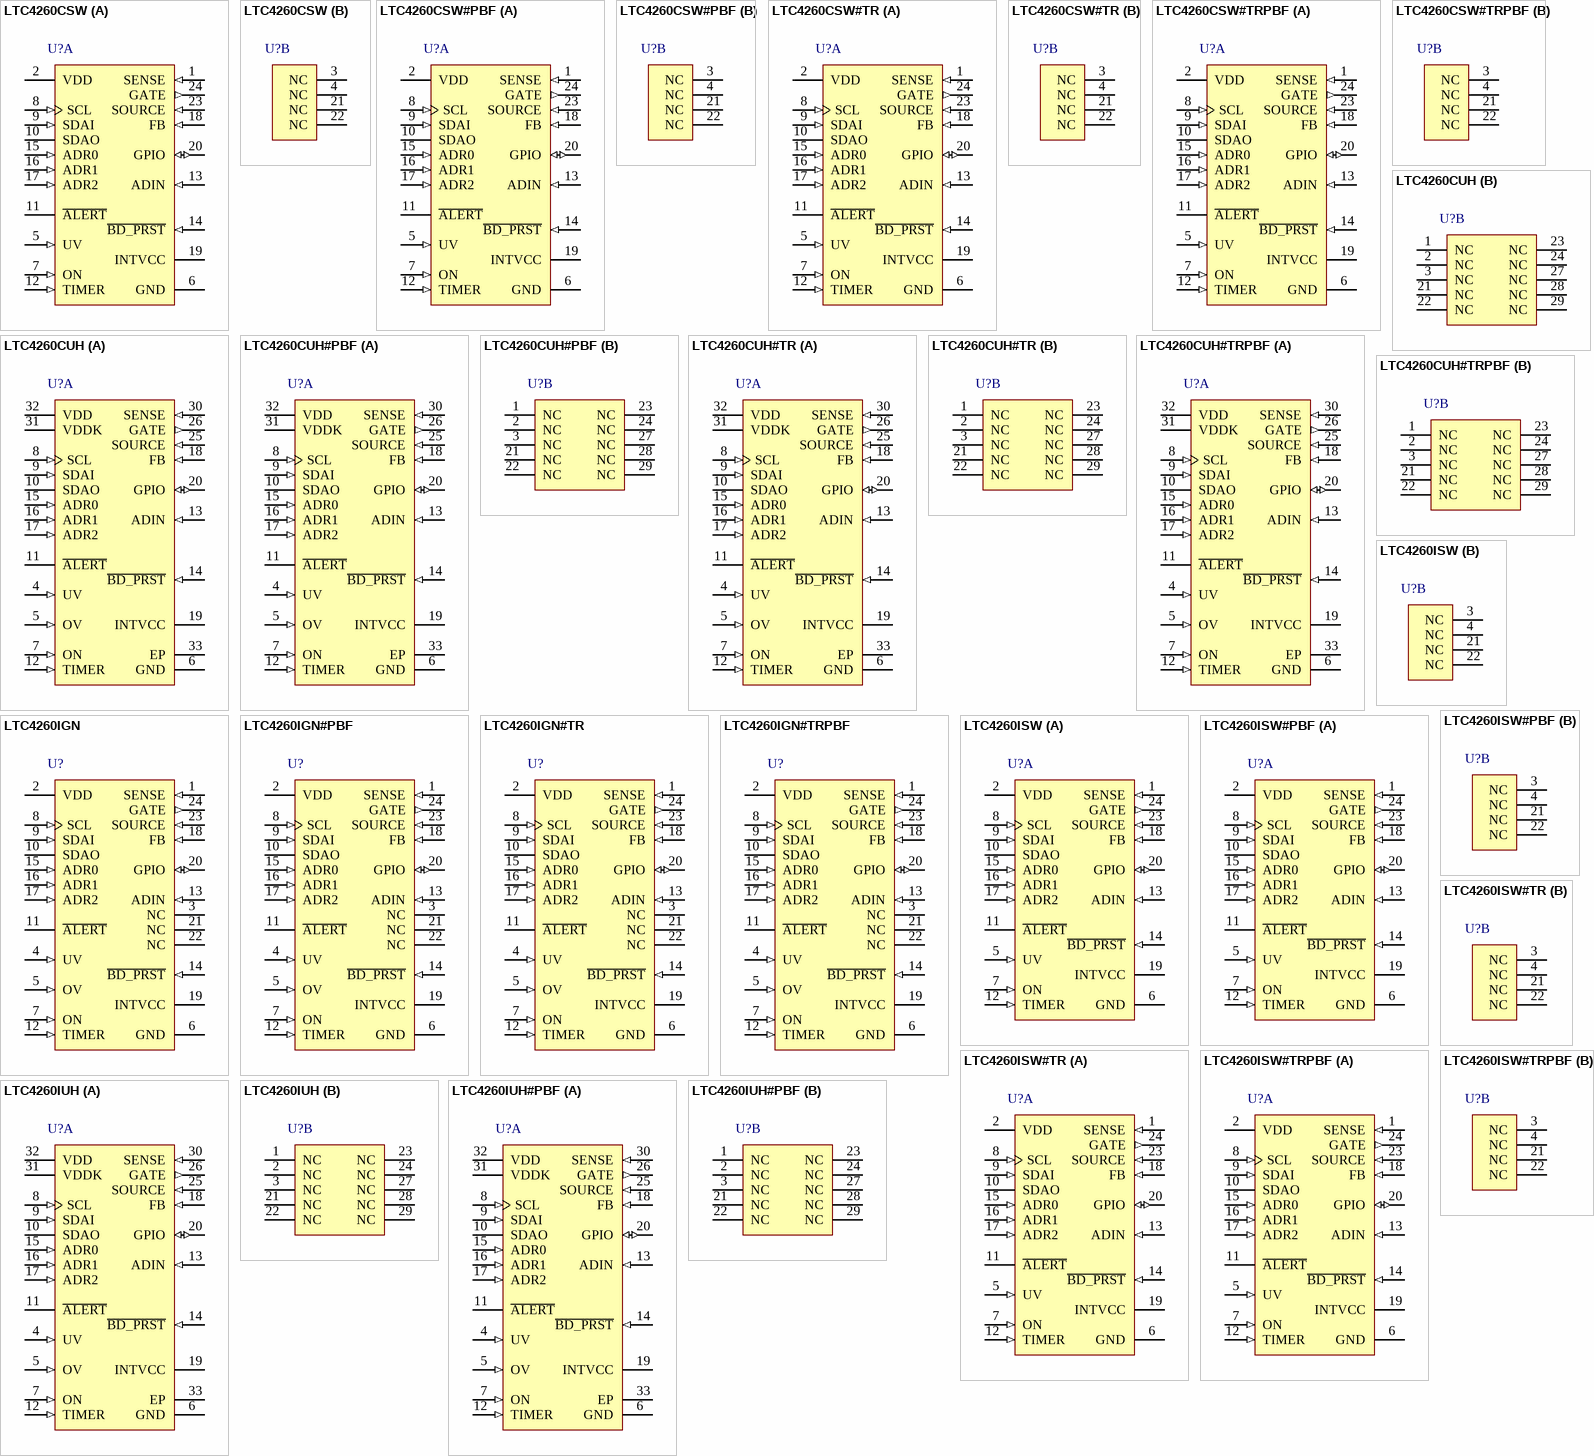
[diagram p30: symbols LTC4260CSW to LTC4260IUH#PBF]

## LTC4260CSW
designator U?
Positive High Voltage Hot Swap Controller with I2C Compatible Monitoring, 8.5 to 80 V Vin, 24-pin SOIC (SW-24), 0 to 70 degC; Manufacturer: Linear Technology; PartNumber: LTC4260CSW; Active Limiting: yes; ADC: 8-bit; Circuit Breaker Accuracy(%): 10; Circuit Breaker Threshold: 50 mV; Circuit Breakers(#): 1; Extended Temp: C, I; Fast Comparator: no; In-Rush Current: Active; DatasheetVersion: Rev. C; PackageVersion: Jun-10; PackageReference: SW-24; PackageDescription: 24-Pin Plastic Small Outline, Body 15.395 x 7.493 mm, Pitch 1.27 mm; Fault: yes; Foldback: yes; Power Good: yes; Reset: no; RoHS: FALSE; Vin Range: 8.5 to 80 V; Mounting Technology: Surface Mount; ComponentLink1Description: Manufacturer URL; ComponentLink1URL: http://www.linear.com/; ComponentLink2Description: Datasheet; ComponentLink2URL: http://cds.linear.com/docs/en/datasheet/4260fc.pdf; ComponentLink3Description: Package Specification; ComponentLink3URL: http://cds.linear.com/docs/Packaging/SO_24_05-08-1620.pdf
footprint LT-SW-24_N (SOIC, 24-Leads, Body 15.6x7.6mm, Pitch 1.27mm, IPC Medium Density)
footprint LT-SW-24_L (SOIC, 24-Leads, Body 15.6x7.6mm, Pitch 1.27mm, IPC High Density)
footprint LT-SW-24_M (SOIC, 24-Leads, Body 15.6x7.6mm, Pitch 1.27mm, IPC Low Density)
part A pins: 1 SENSE (in) "Current Sense Input. Connect this pin to the output of the current sense resistor.", 2 VDD (power) "Supply Voltage and Current Sense Input. This pin has an undervoltage lockout threshold of 7.45V.", 5 UV (in) "Undervoltage Comparator Input. Connect this pin to an external resistive divider from VDD. If the voltage at this pin falls below 3.12V, an undervoltage fault is detected and the switch turns off. Pulling this pin below 1.2V (See Datasheet)", 6 GND (power) "Device Ground.", 7 ON (in) "On Control Input. A rising edge turns on the external N-channel FET and a falling edge turns it off.", 8 SCL (in) "Serial Bus Clock Input. Data at the SDA pin is shifted in or out on rising edges of SCL.", 9 SDAI (in) "Serial Bus Data Input. A high impedance input used for shifting in address, command or data bits. Normally tied to SDAO to form the SDA line.", 10 SDAO (oc) "Serial Bus Data Output. Open-drain output used for sending data back to the master controller or acknowledging a write operation. Normally tied to SDAI to form the SDA line. An external pull-up resistor or current source is (See Datasheet)", 11 ~{ALERT} (oc) "Fault Alert Output. Open-drain logic output that can be pulled to ground when a fault occurs to alert the host controller. A fault alert is enabled by the ALERT register. This device is compatible with SMBus alert protocol. (See Datasheet)", 12 TIMER (in) "Timer Input. Connect a capacitor between this pin and ground to set a 12ms/uF duration for current limit before the switch is turned off.", 13 ADIN (in) "ADC Input. A voltage between 0V and 2.56V applied to this pin can be measured by the onboard ADC. Tie to ground if unused.", 14 ~{BD_PRST} (in) "Board Present Input. Ground this pin to enable the N-channel FET to turn on after 100ms debounce delay. When this pin is high, the FET is off. An internal 10uA current source pulls up this pin.", 15 ADR0 (in) "Serial Bus Address Inputs. Tying these pins to ground, open or INTVCC configures one of 27 possible addresses. See Table 1 in Applications Information", 16 ADR1 (in) "Serial Bus Address Inputs. Tying these pins to ground, open or INTVCC configures one of 27 possible addresses. See Table 1 in Applications Information", 17 ADR2 (in) "Serial Bus Address Inputs. Tying these pins to ground, open or INTVCC configures one of 27 possible addresses. See Table 1 in Applications Information", 18 FB (in) "Foldback and Power Good Input. A resistive divider from the output voltage is tied to this pin.", 19 INTVCC (power) "Internal Low Voltage Supply Decoupling Output. Connect a 0.1uF capacitor from this pin to ground. This pin can be used to drive the other pins to logic high and has an undervoltage lockout threshold of 3.8V.", 20 GPIO (io) "General Purpose Input/Output. Open-drain logic output and logic input. Defaults to pull low to indicatepower is bad. Configure according to Table 3.", 23 SOURCE (in) "N-Channel MOSFET Source Connection and ADC Input. Connect this pin to the source of the external N-channel MOSFET switch. This pin also serves as the ADC input to monitor output voltage. The pin provides a return for the (See Datasheet)", 24 GATE (out) "Gate Drive for External N-Channel FET. An internal 18uA current source charges the gate of the external N-channel MOSFET. A resistor and capacitor network from this pin to ground sets the turn-on rate and compensates th(See Datasheet)"
part B pins: 3 NC "No Connect. Unconnected pins. These pins provide extra distance between high and low voltage pins.", 4 NC "No Connect. Unconnected pins. These pins provide extra distance between high and low voltage pins.", 21 NC "No Connect. Unconnected pins. These pins provide extra distance between high and low voltage pins.", 22 NC "No Connect. Unconnected pins. These pins provide extra distance between high and low voltage pins."